# EAGLE library part MCP1631* (library Microchip)
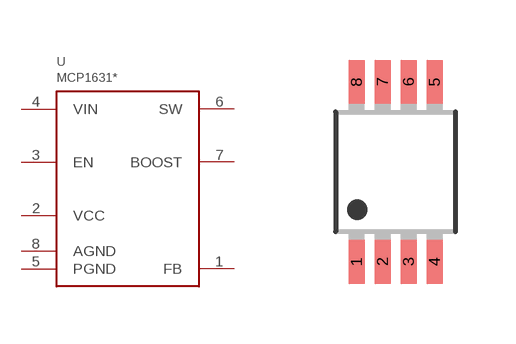
[diagram p35: symbol with the pads of MSOP8; footprint MSOP8]

Designator prefix U

## MCP16311, MCP16312  [MSOP8]
1  FB
2  VCC
3  EN
4  VIN
5  PGND
6  SW
7  BOOST
8  AGND

## Footprint MSOP8 (pad centres in mm)
smd 0.4 x 1.1: 1 -0.975,-2.25; 2 -0.325,-2.25; 3 0.325,-2.25; 4 0.975,-2.25; 5 0.975,2.25; 6 0.325,2.25; 7 -0.325,2.25; 8 -0.975,2.25